# EAGLE library part 62533020621 (library Wire-to-Board)
WR-BHD 2.00mm Male SMT Box Header High Temperature, 30 Pins=>Code : Con_WTB_BHD_2.00_Male_SMT_62533020621 <http://katalog.we-online.de/media/thumbs2/eican/thb_Con_WTB_BHD_2.00_Male_SMT_6253xx20621_pf2.jpg> Details see: http://katalog.we-online.de/en/em/625_3xx_206_21 Created 2014-06-05, Karrer Zheng 2014 (C) Würth Elektronik
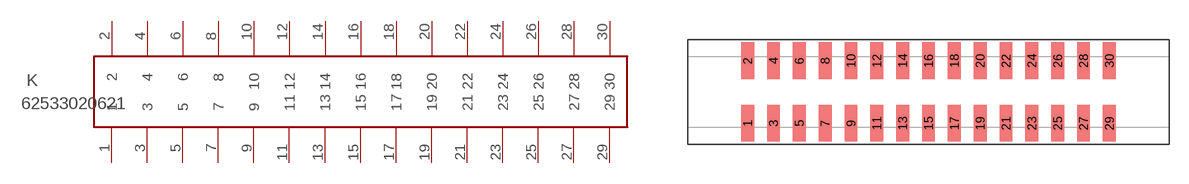
[diagram p270: symbol with the pads of 62533020621; footprint 62533020621]

Designator prefix K

## 62533020621  [62533020621]
1  1  pas
2  2  pas
3  3  pas
4  4  pas
5  5  pas
6  6  pas
7  7  pas
8  8  pas
9  9  pas
10  10  pas
11  11  pas
12  12  pas
13  13  pas
14  14  pas
15  15  pas
16  16  pas
17  17  pas
18  18  pas
19  19  pas
20  20  pas
21  21  pas
22  22  pas
23  23  pas
24  24  pas
25  25  pas
26  26  pas
27  27  pas
28  28  pas
29  29  pas
30  30  pas

## Footprint 62533020621 (pad centres in mm)
WRBHD-2.00mm Male SMT Box Header High Temperature,30 pins
smd 1 x 2.85: 1 -12,-2.425; 2 -12,2.425; 3 -10,-2.425; 4 -10,2.425; 5 -8,-2.425; 6 -8,2.425; 7 -6,-2.425; 8 -6,2.425; 9 -4,-2.425; 10 -4,2.425; 11 -2,-2.425; 12 -2,2.425; 13 0,-2.425; 14 0,2.425; 15 2,-2.425; 16 2,2.425; 17 4,-2.425; 18 4,2.425; 19 6,-2.425; 20 6,2.425; 21 8,-2.425; 22 8,2.425; 23 10,-2.425; 24 10,2.425; 25 12,-2.425; 26 12,2.425; 27 14,-2.425; 28 14,2.425; 29 16,-2.425; 30 16,2.425